# Altium footprint library personal_library.PcbLib: 59 footprints (part 1 of 4)
Each footprint in its own frame and in the unit in brackets; x right, y up, seen from the top. Pads: shape width x height; smd on the part's side, far side on the other; paste and mask are expansions set on the pad; w line width, h text height; cw(c..) or ccw(c..) is an arc to the next point about the centre after c.
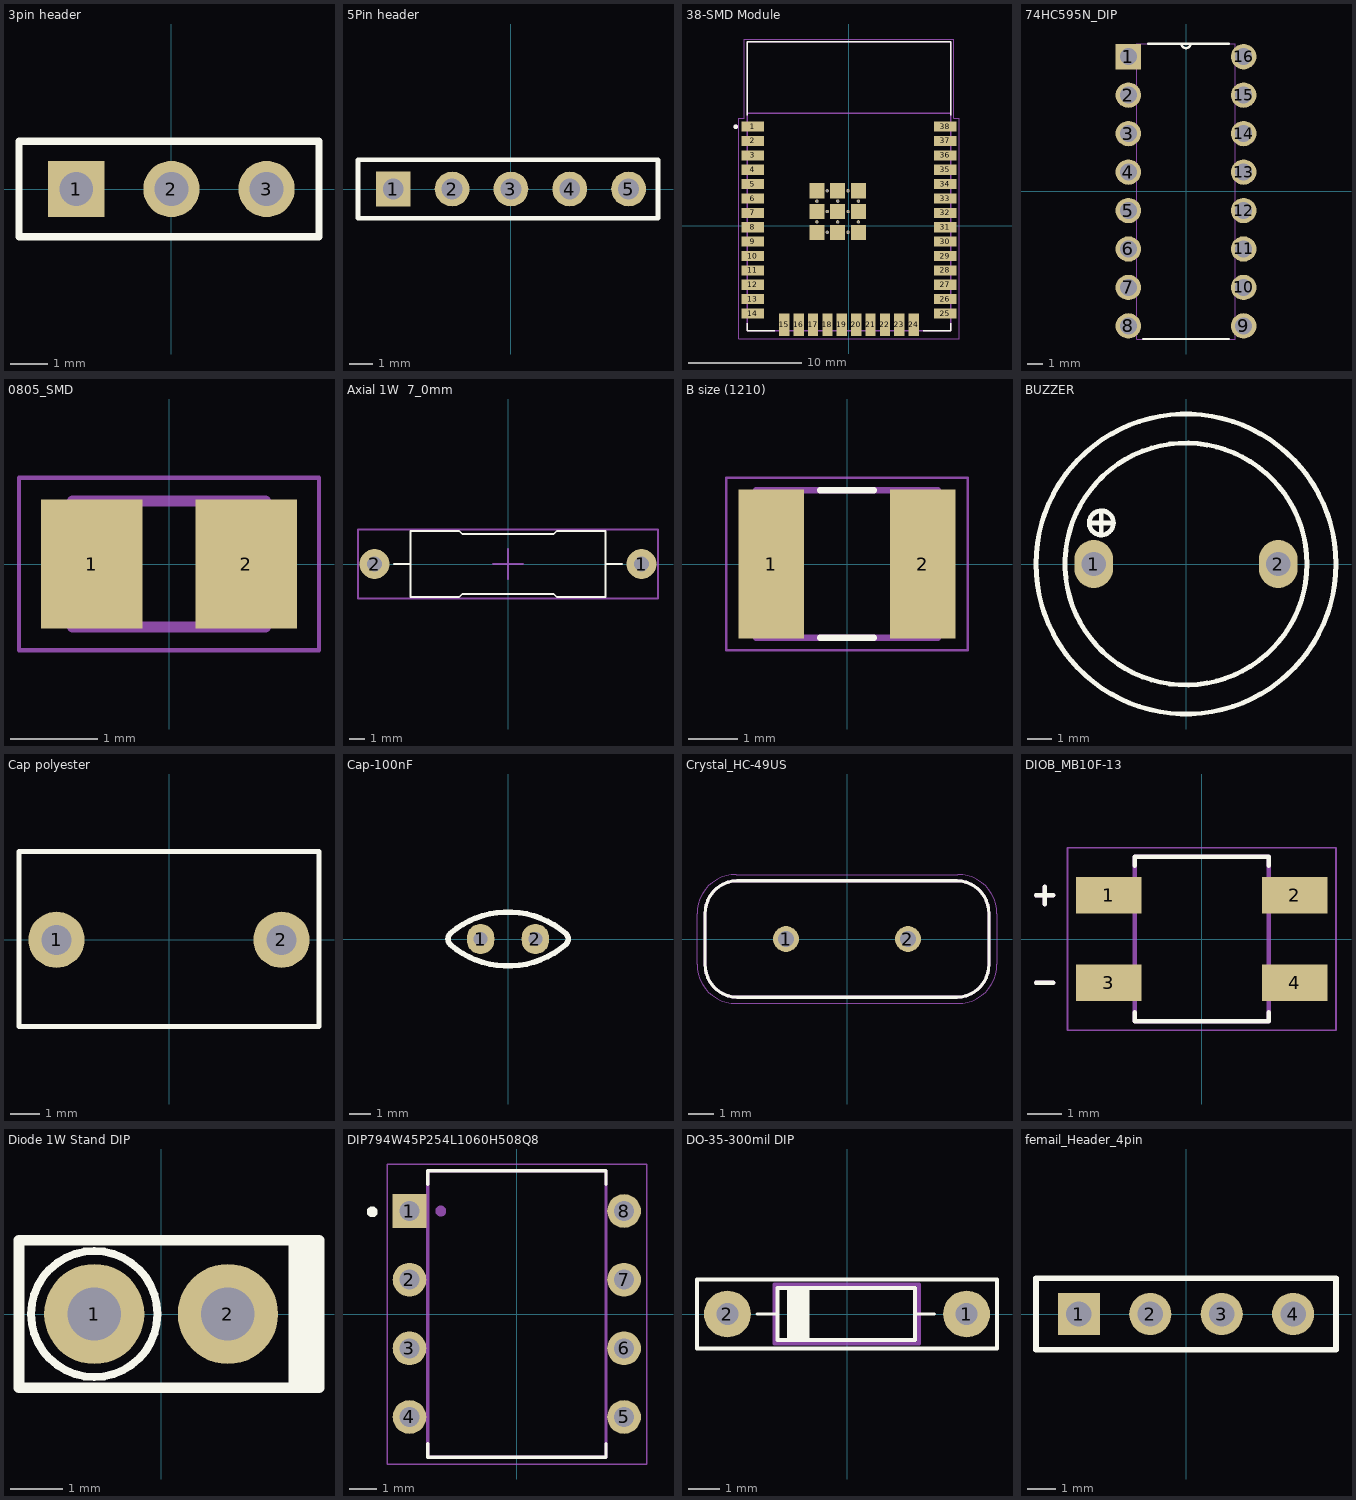
[diagram p0: the footprints below, top view; thin cyan lines are the x and y axes]

## 3pin header [mm]
pads (3):
  rect 1.5x1.5 hole 0.9: 1(-2.54,0)
  round 1.5 hole 0.9: 2(0,0) 3(2.54,0)
Top Overlay:
  lines w0.2: -4.064,-1.27 -4.064,1.27 3.937,1.27 3.937,-1.27 -4.064,-1.27

## 5Pin header [mm]
pads (5):
  rect 1.5x1.5 hole 0.9: 1(-5.08,0)
  round 1.5 hole 0.9: 2(-2.54,0) 3(0,0) 4(2.54,0) 5(5.08,0)
Top Overlay:
  lines w0.2: -6.604,-1.27 -6.604,1.27 6.35,1.27 6.35,-1.27 -6.604,-1.27

## 38-SMD Module [mm] "ESP32_mcu"
pads (59):
  rect 2x0.9 smd: 1(-8.5,8.755) 2(-8.5,7.485) 3(-8.5,6.215) 4(-8.5,4.945) 5(-8.5,3.675) 6(-8.5,2.405) 7(-8.5,1.135) 8(-8.5,-0.135) 9(-8.5,-1.405) 10(-8.5,-2.675) 11(-8.5,-3.945) 12(-8.5,-5.215) 13(-8.5,-6.485) 14(-8.5,-7.755) 25(8.5,-7.755) 26(8.5,-6.485) 27(8.5,-5.215) 28(8.5,-3.945) 29(8.5,-2.675) 30(8.5,-1.405) 31(8.5,-0.135) 32(8.5,1.135) 33(8.5,2.405) 34(8.5,3.675) 35(8.5,4.945) 36(8.5,6.215) 37(8.5,7.485) 38(8.5,8.755)
  rect 0.9x2 smd: 15(-5.715,-8.755) 16(-4.445,-8.755) 17(-3.175,-8.755) 18(-1.905,-8.755) 19(-0.635,-8.755) 20(0.635,-8.755) 21(1.905,-8.755) 22(3.175,-8.755) 23(4.445,-8.755) 24(5.715,-8.755)
  rect 1.33x1.33 smd: 39_1(-2.835,3.09) 39_2(-1,3.09) 39_3(0.835,3.09) 39_4(-2.835,1.255) 39_5(-1,1.255) 39_6(0.835,1.255) 39_7(-2.835,-0.58) 39_8(-1,-0.58) 39_9(0.835,-0.58)
  round 0.3 hole 0.2: 39_10(-1.917,3.09) 39_11(-0.082,3.09) 39_12(-2.835,2.173) 39_13(-1,2.173) 39_14(0.835,2.173) 39_15(-1.917,1.255) 39_16(-0.082,1.255) 39_17(-2.835,0.338) 39_18(-1,0.338) 39_19(0.835,0.338) 39_20(-1.917,-0.58) 39_21(-0.082,-0.58)
Top Overlay:
  circle w0.2: c-10,8.745 r0.1
  lines w0.127: -9,-8.605 -9,-9.255 -6.55,-9.255 ; -9,9.745 -9,16.245 9,16.245 9,9.745 ; 6.55,-9.255 9,-9.255 9,-8.605
Mechanical 13:
  circle w0.2: c-10,8.745 r0.1
  lines w0.127: -9,9.945 -9,-9.255 9,-9.255 9,9.945 ; -9,9.945 -9,16.245 9,16.245 9,9.945 ; -9,9.945 9,9.945
  text "ANTENNA" at -6,12.495 h1.78
Mechanical 15:
  lines w0.05: -9.75,-10.005 9.75,-10.005 9.75,9.495 9.25,9.495 9.25,16.495 -9.25,16.495 -9.25,9.495 -9.75,9.495 -9.75,-10.005
3D body "step_temp.STEP": height 3.25, standoff 0, extent -9,-9.255 9,16.245

## 74HC595N_DIP [mil]
pads (16):
  rect 66x66 / inner round 66 / far side rect 66x66 hole 44: 1(-150,350)
  round 66 hole 44: 2(-150,250) 3(-150,150) 4(-150,50) 5(-150,-50) 6(-150,-150) 7(-150,-250) 8(-150,-350) 9(150,-350) 10(150,-250) 11(150,-150) 12(150,-50) 13(150,50) 14(150,150) 15(150,250) 16(150,350)
Top Overlay:
  lines w6: -111,-384 111,-384 ; -98,384 -12,384 ; 111,384 12,384 ; -12,384 ccw(c0,384) 12,384 ; -12,384 12,384
Mechanical 13:
  lines w0: -12,384 ccw(c0,384) 12,384 ; -12,384 12,384 ; -12,384 -128,384 -128,-384 128,-384 128,384 12,384 ; -172,-372 -172,-328 -128,-328 -128,-372 -172,-372 ; -172,-272 -172,-228 -128,-228 -128,-272 -172,-272 ; -172,-172 -172,-128 -128,-128 -128,-172 -172,-172 ; -172,-72 -172,-28 -128,-28 -128,-72 -172,-72 ; -172,28 -172,72 -128,72 -128,28 -172,28 ; -172,128 -172,172 -128,172 -128,128 -172,128 ; -172,228 -172,272 -128,272 -128,228 -172,228 ; -172,328 -172,372 -128,372 -128,328 -172,328 ; 128,-372 128,-328 172,-328 172,-372 128,-372 ; 128,-272 128,-228 172,-228 172,-272 128,-272 ; 128,-172 128,-128 172,-128 172,-172 128,-172 ; 128,-72 128,-28 172,-28 172,-72 128,-72 ; 128,28 128,72 172,72 172,28 128,28 ; 128,128 128,172 172,172 172,128 128,128 ; 128,228 128,272 172,272 172,228 128,228 ; 128,328 128,372 172,372 172,328 128,328
3D body "step_temp.STEP": height 165.35, standoff -130.91, extent -185.62,-371.92 186.13,377.1

## 0805_SMD [mm]
pads (2):
  rect 1.16x1.47 smd: 1(-0.88,0) 2(0.88,0)
Mechanical 13:
  lines w0.127: -1.1,-0.72 -1.1,0.72 1.1,0.72 1.1,-0.72 -1.1,-0.72
Mechanical 15:
  lines w0.05: -1.713,-0.983 -1.713,0.983 1.713,0.983 1.713,-0.983 -1.713,-0.983
3D body "step_temp.STEP": height 0.94, standoff 0, extent -1.005,-0.625 1.005,0.625

## Axial 1W  7_0mm [mm] "DIP resistor"
pads (2):
  round 2 hole 1: 1(8.9,0) 2(-8.9,0)
Top Overlay:
  lines w0.12: -7.6,0 -6.5,0 ; 6.5,0 7.6,0 ; -6.5,-2.2 -3.25,-2.2 -3.05,-2 3.05,-2 3.25,-2.2 6.5,-2.2 6.5,2.2 3.25,2.2 3.05,2 -3.05,2 -3.25,2.2 -6.5,2.2 -6.5,-2.2
Mechanical 15:
  lines w0.12: -1,0 1,0 ; 0,-1 0,1 ; -10,-2.3 10,-2.3 10,2.3 -10,2.3 -10,-2.3
3D body "User Library-Res70 1W SilCoat.STEP": height 5.22, standoff -1.3, extent -9.265,-2.25 9.265,2.25

## B size (1210) [mm]
pads (2):
  rect 1.34x3.02 smd: 1(-1.54,0) 2(1.54,0)
Top Overlay:
  lines w0.127: -0.55,-1.5 0.55,-1.5 ; -0.55,1.5 0.55,1.5
Mechanical 13:
  lines w0.127: -1.85,-1.5 1.85,-1.5 1.85,1.5 -1.85,1.5 -1.85,-1.5
Mechanical 15:
  lines w0.05: -2.458,-1.75 2.458,-1.75 2.458,1.75 -2.458,1.75 -2.458,-1.75
3D body "step_temp.STEP": height 2.1, standoff 0, extent -1.75,-1.4 1.75,1.4

## BUZZER [mm]
pads (2):
  oval 1.6x2 hole 1: 1(-3.81,0) 2(3.81,0)
Top Overlay:
  circle w0.2: c0,0 r5
  circle w0.2: c0,0 r6.2
  circle w0.2: c-3.5,1.7 r0.5
  lines w0.2: -4,1.7 -3,1.7 ; -3.5,1.2 -3.5,2.2
3D body "User Library-Buzzer CEM-1205C.step": height 9.5, standoff -3.5, extent -6,-6 6,6

## Cap polyester [mil]
pads (2):
  round 75 hole 40: 1(-150,0) 2(150,0)
Top Overlay:
  lines w7: -200,-115.39 200,-115.39 200,117.65 -200,117.65 -200,-115.39
3D body "Cap 100n - 400V Poly.STEP": height 460, standoff -88.11, extent -180.5,-115.39 184.5,117.65

## Cap-100nF [mil]
pads (2):
  oval 50x55 hole 25: 1(-50,0) 2(50,0)
Top Overlay:
  lines w10: -105.81,-9.79 ccw(c0,112.17) 106.05,-9.58 ; -105.81,9.79 cw(c0,-112.17) 106.05,9.58 ; -105.58,-9.52 cw(c-96.06,0) -105.58,9.52 ; 106,-9.52 ccw(c96.48,0) 106,9.52
3D body "Cap 100n.STEP": height 272.48, standoff -39.37, extent -114.93,-34 114.93,32.79

## Crystal_HC-49US [mm]
pads (2):
  round 1.03 hole 0.63: 1(-2.44,0) 2(2.44,0)
Top Overlay:
  lines w0.127: -5.675,-1.012 ccw(c-4.38,-1.035) -4.403,-2.33 ; -5.675,-1.01 -5.675,1.01 ; -5.675,1.012 cw(c-4.38,1.035) -4.403,2.33 ; -4.405,-2.33 4.405,-2.33 ; -4.405,2.33 4.405,2.33 ; 4.403,-2.33 ccw(c4.38,-1.035) 5.675,-1.012 ; 4.403,2.33 cw(c4.38,1.035) 5.675,1.012 ; 5.675,-1.01 5.675,1.01
Mechanical 13:
  lines w0.127: -5.675,-1.012 ccw(c-4.38,-1.035) -4.403,-2.33 ; -5.675,-1.01 -5.675,1.01 ; -5.675,1.012 cw(c-4.38,1.035) -4.403,2.33 ; -4.405,-2.33 4.405,-2.33 ; -4.405,2.33 4.405,2.33 ; 4.403,-2.33 ccw(c4.38,-1.035) 5.675,-1.012 ; 4.403,2.33 cw(c4.38,1.035) 5.675,1.012 ; 5.675,-1.01 5.675,1.01
Mechanical 15:
  lines w0.05: -6,-1.01 ccw(c-4.43,-1.01) -4.43,-2.58 4.43,-2.58 ccw(c4.43,-1.01) 6,-1.01 6,1.01 ccw(c4.43,1.01) 4.43,2.58 -4.43,2.58 ccw(c-4.43,1.01) -6,1.01 -6,-1.01
3D body "step_temp.STEP": height 3.5, standoff -12.7, extent -5.675,-2.325 5.675,2.325

## DIOB_MB10F-13 [mm]
pads (4):
  rect 1.875x1.05 smd: 1(-2.662,1.25) 2(2.662,1.25) 3(-2.662,-1.25) 4(2.662,-1.25)
Top Overlay:
  lines w0.127: -4.75,-1.25 -4.25,-1.25 ; -4.75,1.25 -4.25,1.25 ; -4.5,1 -4.5,1.5 ; -1.925,-2.095 -1.925,-2.362 1.925,-2.362 1.925,-2.095 ; -1.925,2.095 -1.925,2.362 1.925,2.362 1.925,2.095
Mechanical 13:
  lines w0.127: -4.75,-1.25 -4.25,-1.25 ; -4.75,1.25 -4.25,1.25 ; -4.5,1 -4.5,1.5 ; -1.925,-2.362 -1.925,2.362 1.925,2.362 1.925,-2.362 -1.925,-2.362
Mechanical 15:
  lines w0.05: -3.85,-2.612 -3.85,2.612 3.85,2.612 3.85,-2.612 -3.85,-2.612
3D body "step_temp.STEP": height 1.8, standoff 0, extent -3.35,-2.362 3.35,2.362

## Diode 1W Stand DIP [mil]
pads (2):
  round 75 hole 40: 1(-50,0) 2(50,0)
Top Overlay:
  circle w5.91: c-50,0 r47.24
  rectangle: 95.47,-55 118.11,55
  lines w7.87: -106.3,-55 118.11,-55 118.11,55 -106.3,55 -106.3,-55
3D body "Zener 1W_Stand.STEP": height 291.09, standoff -39.37, extent -103,-52 65,53

## DIP794W45P254L1060H508Q8 [mm]
pads (8):
  rect 1.248x1.248 / inner round 1.248 / far side rect 1.248x1.248 hole 0.74: 1(-3.97,3.81)
  round 1.248 hole 0.74: 2(-3.97,1.27) 3(-3.97,-1.27) 4(-3.97,-3.81) 5(3.97,-3.81) 6(3.97,-1.27) 7(3.97,1.27) 8(3.97,3.81)
Top Overlay:
  circle w0.2: c-5.35,3.78 r0.1
  lines w0.127: -3.3,-4.8 -3.3,-5.3 3.3,-5.3 3.3,-4.8 ; -3.3,4.8 -3.3,5.3 3.3,5.3 3.3,4.8
Mechanical 13:
  circle w0.2: c-2.81,3.81 r0.1
  lines w0.127: -3.3,-5.3 -3.3,5.3 3.3,5.3 3.3,-5.3 -3.3,-5.3
Mechanical 15:
  lines w0.05: -4.8,-5.55 -4.8,5.55 4.8,5.55 4.8,-5.55 -4.8,-5.55
3D body "step_temp.STEP": height 5.08, standoff -3.18, extent -4.095,-4.795 4.095,4.795

## DO-35-300mil DIP [mm]
pads (2):
  round 1.5 hole 0.7: 1(3.825,0) 2(-3.825,0)
Top Overlay:
  rectangle: -1.925,-0.85 -1.2,0.85
  lines w0.1: -2.875,0 -2.225,0 ; 2.175,0 2.8,0
  lines w0.127: -4.8,-1.1 -4.8,1.1 4.8,1.1 4.8,-1.1 -4.8,-1.1 ; -2.225,-0.825 2.175,-0.825 2.175,0.825 -2.225,0.825 -2.225,-0.825
Mechanical 13:
  lines w0.127: -2.325,-0.95 -2.325,0.95 2.3,0.95 2.3,-0.95 -2.325,-0.95
3D body "User Library-DO-35-300mil.STEP": height 2.46, standoff -1.95, extent -4.1,-0.96 4.08,0.96

## femail_Header_4pin [mm]
pads (4):
  rect 1.5x1.5 hole 0.9: 1(-3.81,0)
  round 1.5 hole 0.9: 2(-1.27,0) 3(1.27,0) 4(3.81,0)
Top Overlay:
  lines w0.2: -5.334,-1.27 -5.334,1.27 5.334,1.27 5.334,-1.27 -5.334,-1.27
3D body "zl305-4s_p2-54_l10-66_w2-5_h5.stp": height 5, standoff -3, extent -5.33,-1.25 5.33,1.25